# Altium schematic symbol library NRF24L01_module.SchLib: 1 symbol
Pins are listed as number, name and electrical type; pins without a type are passive.

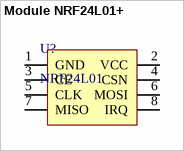
[diagram p0: symbol Module NRF24L01+]

## Module NRF24L01+
designator U?, comment NRF24L01
footprint NRF24L01
pins: 1 GND, 2 VCC, 3 CE, 4 CSN, 5 CLK, 6 MOSI, 7 MISO, 8 IRQ